# EAGLE library part LED_6X (library robo_ag)
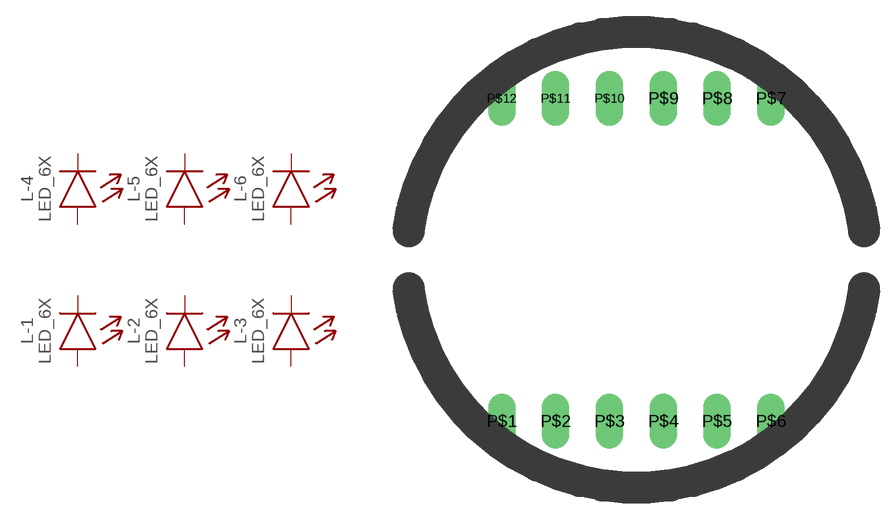
[diagram p1: symbol with the pads of LED_20MM_6X; footprint LED_20MM_6X]

Designator prefix L; gates -1=LED3 -2=LED3 -3=LED3 -4=LED3 -5=LED3 -6=LED3

## LED_6X  [LED_20MM_6X]
P$1  -1:P$2  pas
P$2  -1:P$1  pas
P$3  -2:P$2  pas
P$4  -2:P$1  pas
P$5  -3:P$2  pas
P$6  -3:P$1  pas
P$7  -4:P$2  pas
P$8  -4:P$1  pas
P$9  -5:P$2  pas
P$10  -5:P$1  pas
P$11  -6:P$2  pas
P$12  -6:P$1  pas

## Footprint LED_20MM_6X (pad centres in mm)
Led 20mm DLA-6SGD Autor: Pete(r) Datum: 12.02.2012
drill 0.8 long: P$1 -6.35,-7.62; P$2 -3.81,-7.62; P$3 -1.27,-7.62; P$4 1.27,-7.62; P$5 3.81,-7.62; P$6 6.35,-7.62; P$7 6.35,7.62; P$8 3.81,7.62; P$9 1.27,7.62; P$10 -1.27,7.62; P$11 -3.81,7.62; P$12 -6.35,7.62